# EAGLE library part TPS61010 (library IC)
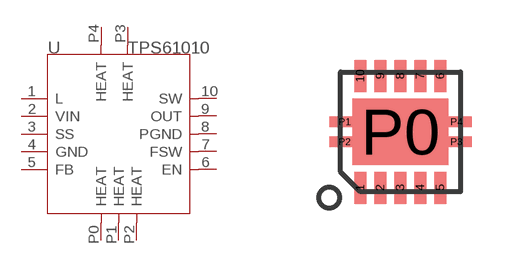
[diagram p173: symbol with the pads of QFN10; footprint QFN10]

Designator prefix U

## TPS61010  [QFN10]
1  L  in
2  VIN  in
3  SS  in
4  GND  sup
5  FB  in
6  EN  in
7  FSW  in
8  PGND  sup
9  OUT  out
10  SW  in
P0  HEAT
P1  HEAT
P2  HEAT
P3  HEAT
P4  HEAT

## Footprint QFN10 (pad centres in mm)
smd 0.3 x 0.8: 1 -1,-1.4; 2 -0.5,-1.4; 3 0,-1.4; 4 0.5,-1.4; 5 1,-1.4; 6 1,1.4; 7 0.5,1.4; 8 0,1.4; 9 -0.5,1.4; 10 -1,1.4
smd 2.4 x 1.65: P0 0,0
smd 0.762 x 0.254: P1 -1.4,0.25; P2 -1.4,-0.25; P3 1.4,-0.25; P4 1.4,0.25